# Altium schematic symbol library Trans_STMicroelectronics_TIP31C_eec.SchLib: 1 symbol
Pins are listed as number, name and electrical type; pins without a type are passive.

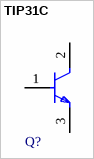
[diagram p0: symbol TIP31C]

## TIP31C
designator Q?  (value not drawn)
pins: 1 B, 2 C, 3 E